# EAGLE library part FT220XS-R (library alvie)
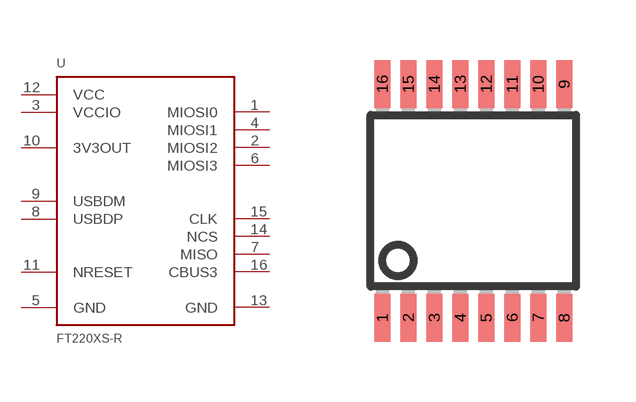
[diagram p34: symbol with the pads of SSOP16; footprint SSOP16]

Designator prefix -

## FT220XS-R  [SSOP16]
1  MIOSI0
2  MIOSI2
3  VCCIO  pwr
4  MIOSI1
5  GND  pwr
6  MIOSI3
7  MISO
8  USBDP  pas
9  USBDM  pas
10  3V3OUT  sup
11  NRESET  in
12  VCC  pwr
13  GND  pwr
14  NCS
15  CLK
16  CBUS3

## Footprint SSOP16 (pad centres in mm)
smd 0.4 x 1.2: 1 -2.275,-2.925; 2 -1.625,-2.925; 3 -0.975,-2.925; 4 -0.325,-2.925; 5 0.325,-2.925; 6 0.975,-2.925; 7 1.625,-2.925; 8 2.275,-2.925; 9 2.275,2.925; 10 1.625,2.925; 11 0.975,2.925; 12 0.325,2.925; 13 -0.325,2.925; 14 -0.975,2.925; 15 -1.625,2.925; 16 -2.275,2.925